# EAGLE library part 2-1445098-8 (library con-tyco-micro-mate-n-lok2)
Through Hole 8pos 1row
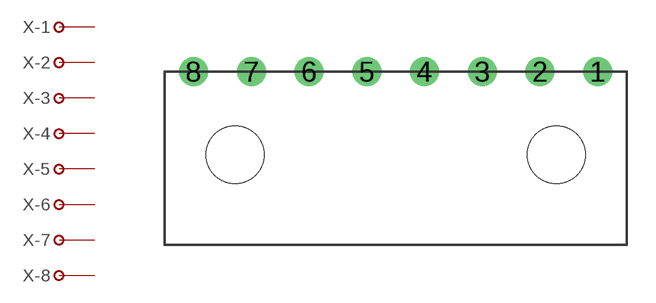
[diagram p1: symbol with the pads of THROUGH_VERTICAL_8X1; footprint THROUGH_VERTICAL_8X1]

Designator prefix X; gates -1=PIN -2=PIN -3=PIN -4=PIN -5=PIN -6=PIN -7=PIN -8=PIN

## 2-1445098-8  [THROUGH_VERTICAL_8X1]
1  -1:P$1
2  -2:P$1
3  -3:P$1
4  -4:P$1
5  -5:P$1
6  -6:P$1
7  -7:P$1
8  -8:P$1

## Footprint THROUGH_VERTICAL_8X1 (pad centres in mm)
drill 1: 1 10.5,0; 2 7.5,0; 3 4.5,0; 4 1.5,0; 5 -1.5,0; 6 -4.5,0; 7 -7.5,0; 8 -10.5,0
hole 3 at -8.35,-4.32
hole 3 at 8.35,-4.32